# EAGLE library part BQ25570 (library Oles komponentbibliotek)
Energy harvesting nano-power management IC designed to acquire and manage the microwatts (μW) to milliwatts (mW) of power generated from a variety of DC sources. The IC an be started with Vin = 330 mV, and can continue to harvest energy down to VIN = 100 mV.
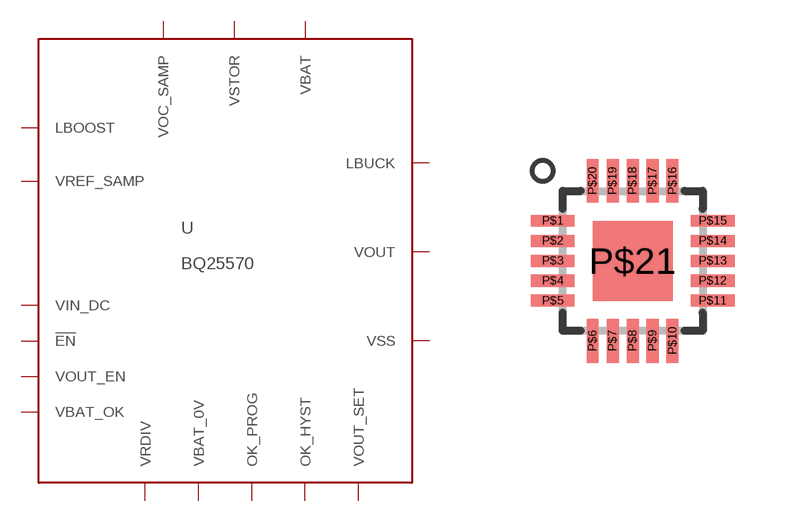
[diagram p39: symbol with the pads of TQFN20-5X5; footprint TQFN20-5X5]

Designator prefix -

## BQ25570  [TQFN20-5X5]
P$1  VSS  pwr
P$2  VIN_DC  pwr
P$3  VOC_SAMP  pas
P$4  VREF_SAMP
P$5  !EN  in
P$6  VOUT_EN  in
P$7  VBAT_0V  in
P$8  VRDIV  in
P$10  OK_HYST  in
P$11  OK_PROG  in
P$12  VOUT_SET  in
P$13  VBAT_OK  out
P$14  VOUT  pwr
P$15  VSS  pwr
P$16  LBUCK  pas
P$18  VBAT  pwr
P$19  VSTOR  pas
P$20  LBOOST  pas
P$21  VSS  pwr

## Footprint TQFN20-5X5 (pad centres in mm)
THIN QFN 20 5x5x0.75mm Source: http://pdfserv.maxim-ic.com/package_dwgs/21-0140.PDF
smd 1.1 x 0.3: P$1 -2,1; P$2 -2,0.5; P$3 -2,0; P$4 -2,-0.5; P$5 -2,-1; P$11 2,-1; P$12 2,-0.5; P$13 2,0; P$14 2,0.5; P$15 2,1
smd 0.3 x 1.1: P$6 -1,-2; P$7 -0.5,-2; P$8 0,-2; P$9 0.5,-2; P$10 1,-2; P$16 1,2; P$17 0.5,2; P$18 0,2; P$19 -0.5,2; P$20 -1,2
smd 2 x 2: P$21 0,0